# EAGLE library part MATRIX_8X8_TRICOLOR_ANODE_ROW (library halcyonmod_Optoelectronics)
RGB 8x8 LED Matrix This variety of display has one anode pin for each row, and three cathode pins for each column. Each anode is shared by red, green and blue cathodes for each cell in the matrix. This part matches the matrix sold by LEDsee.com (SKU: RGBMATRIX) and Seeedstudio.com (SKU: LEDRGBMatrix). The datasheet lists the source as "Guoyexing Optoelectronics Co. Ltd.," part number GYXM-2388AURPGB.
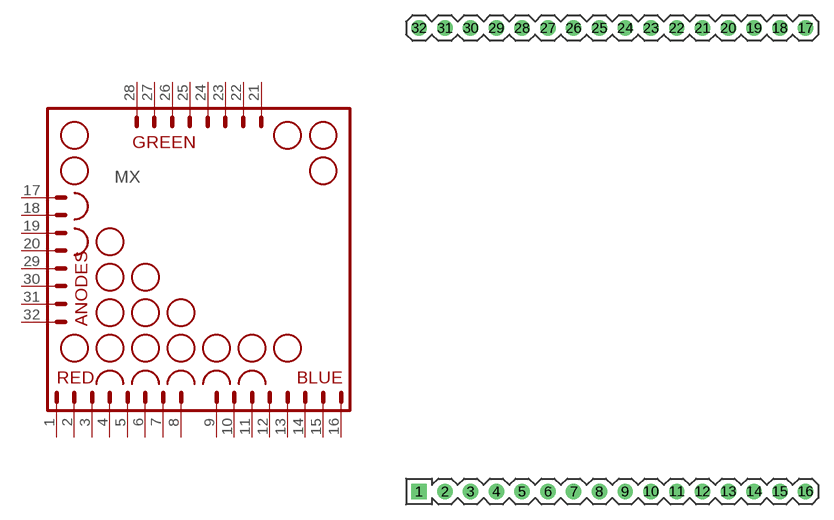
[diagram p13: symbol with the pads of MATRIX_60MM_32PIN; footprint MATRIX_60MM_32PIN]

Designator prefix MX

## MATRIX_8X8_TRICOLOR_ANODE_ROW  [MATRIX_60MM_32PIN]
1  1  pas
2  2  pas
3  3  pas
4  4  pas
5  5  pas
6  6  pas
7  7  pas
8  8  pas
9  9  pas
10  10  pas
11  11  pas
12  12  pas
13  13  pas
14  14  pas
15  15  pas
16  16  pas
17  17  pas
18  18  pas
19  19  pas
20  20  pas
21  21  pas
22  22  pas
23  23  pas
24  24  pas
25  25  pas
26  26  pas
27  27  pas
28  28  pas
29  29  pas
30  30  pas
31  31  pas
32  32  pas

## Footprint MATRIX_60MM_32PIN (pad centres in mm)
60mm Square Display with 32 Pins This package is a common layout for 60mm LED Matrix devices with 32 pins. An outline is drawn on the Measures layer, if you need to see the physical boundary of the display. It is not drawn in the silkscreen layer, since the outline may collide with low-profile parts far away from the pins of the matrix device. The outline shows "key" features around the perimeter, either protruding or sunk into the square edge. Most matrix components use this scheme instead of a dent near pin one.
drill 1.016 square: 1 -19.05,-22.86
drill 1.016: 2 -16.51,-22.86; 3 -13.97,-22.86; 4 -11.43,-22.86; 5 -8.89,-22.86; 6 -6.35,-22.86; 7 -3.81,-22.86; 8 -1.27,-22.86; 9 1.27,-22.86; 10 3.81,-22.86; 11 6.35,-22.86; 12 8.89,-22.86; 13 11.43,-22.86; 14 13.97,-22.86; 15 16.51,-22.86; 16 19.05,-22.86; 17 19.05,22.86; 18 16.51,22.86; 19 13.97,22.86; 20 11.43,22.86; 21 8.89,22.86; 22 6.35,22.86; 23 3.81,22.86; 24 1.27,22.86; 25 -1.27,22.86; 26 -3.81,22.86; 27 -6.35,22.86; 28 -8.89,22.86; 29 -11.43,22.86; 30 -13.97,22.86; 31 -16.51,22.86; 32 -19.05,22.86